# EAGLE library part 74*422 (library U-7400)
Retriggerable monostable MULTIVIBRATOR
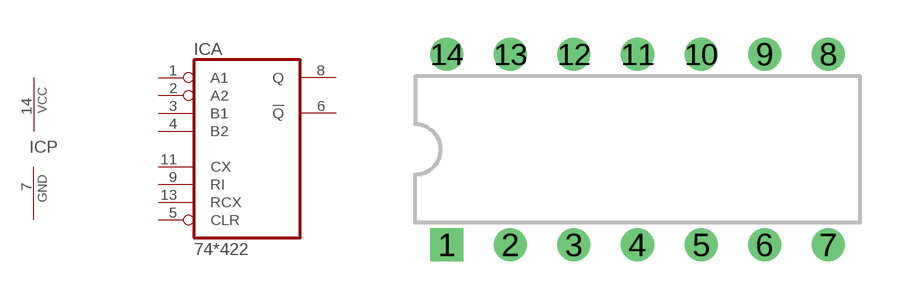
[diagram p150: symbol with the pads of 14DIP; footprint 14DIP]

Designator prefix IC; gates A=74422 P=PWRN

## 74422N  [14DIP]
1  A:A1  in
2  A:A2  in
3  A:B1  in
4  A:B2  in
5  A:CLR  in
6  A:!Q  out
7  P:GND  pwr
8  A:Q  out
9  A:RI  in
11  A:CX  in
13  A:RCX  in
14  P:VCC  sup

## Footprint 14DIP (pad centres in mm)
14POS Dual In-line Package
drill 0.813 square: 1 -7.62,-3.81
drill 0.813: 2 -5.08,-3.81; 3 -2.54,-3.81; 4 0,-3.81; 5 2.54,-3.81; 6 5.08,-3.81; 7 7.62,-3.81; 8 7.62,3.81; 9 5.08,3.81; 10 2.54,3.81; 11 0,3.81; 12 -2.54,3.81; 13 -5.08,3.81; 14 -7.62,3.81